# Altium footprint library PCB_LEDs.PcbLib: 1 footprints
Each footprint in its own frame and in the unit in brackets; x right, y up, seen from the top. Pads: shape width x height; smd on the part's side, far side on the other; paste and mask are expansions set on the pad; w line width, h text height; cw(c..) or ccw(c..) is an arc to the next point about the centre after c.
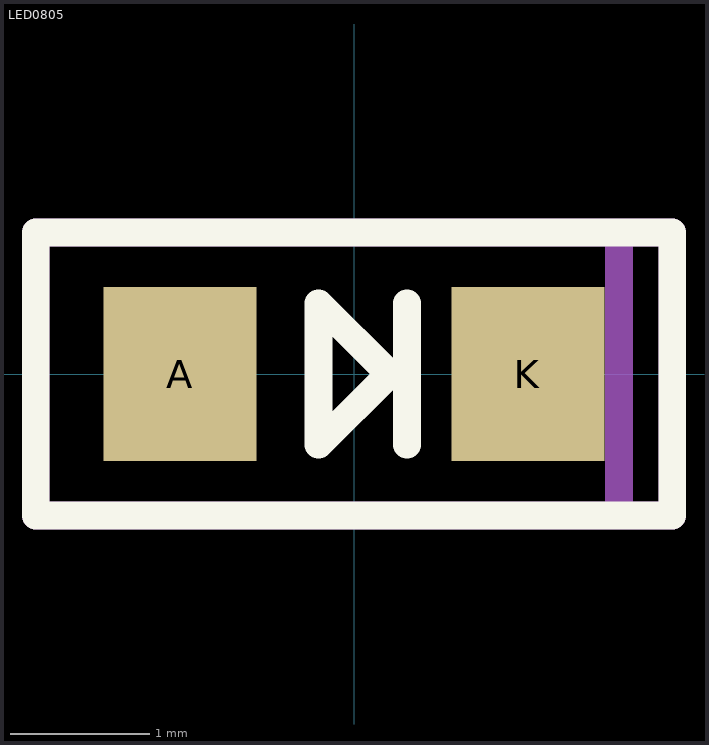
[diagram p0: the footprint, top view; thin cyan lines are the x and y axes]

## LED0805 [mm]
pads (2):
  rect 1.1x1.25 smd: A(-1.25,0) K(1.25,0)
Top Overlay:
  lines w0.2: 0.381,-0.508 0.381,0.508 ; -2.286,-1.016 2.286,-1.016 2.286,1.016 -2.286,1.016 -2.286,-1.016 ; -0.254,-0.508 0.254,0 -0.254,0.508 -0.254,-0.508
Top Assembly:
  lines w0.2: 1.905,-1.016 1.905,1.016 ; -2.286,-1.016 2.286,-1.016 2.286,1.016 -2.286,1.016 -2.286,-1.016
  text ".Designator" at -3.753,-0.233 h0.7
3D body "LED0805.STEP": height 0.75, standoff 0.01, extent -1.003,-0.622 1.003,0.622